# EAGLE library part HIROSE-MICRO-SD (library hirosemicrosd-piggy)
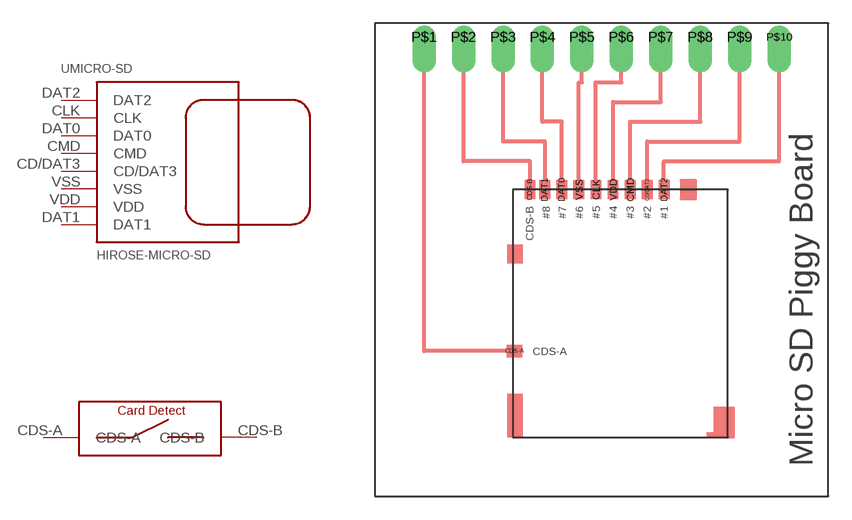
[diagram p0: symbol with the pads of HIROSE-MICROSD-V2; footprint HIROSE-MICROSD-V2]

Designator prefix -; gates MICRO-SD=HIROSE-MICRO-SD CD=MICRO-SD-CDS

## HIROSE-MICRO-SD  [HIROSE-MICROSD-V2]
CD/DAT3  MICRO-SD:CD/DAT3
CDS-A  CD:CDS-A
CDS-B  CD:CDS-B
CLK  MICRO-SD:CLK
CMD  MICRO-SD:CMD
DAT0  MICRO-SD:DAT0
DAT1  MICRO-SD:DAT1
DAT2  MICRO-SD:DAT2
VDD  MICRO-SD:VDD  pas
VSS  MICRO-SD:VSS  pas

## Footprint HIROSE-MICROSD-V2 (pad centres in mm)
smd 0.7 x 1.2: CD/DAT3 7.38,14.68; CDS-B -0.17,14.68; CLK 4.08,14.68; CMD 6.28,14.68; DAT0 1.88,14.68; DAT1 0.78,14.68; DAT2 8.48,14.68; VDD 5.18,14.68; VSS 2.98,14.68
smd 1 x 0.8: CDS-A -1.17,4.28
drill 1 offset: P$1 -6.985,24.511; P$2 -4.445,24.511; P$3 -1.905,24.511; P$4 0.635,24.511; P$5 3.175,24.511; P$6 5.715,24.511; P$7 8.255,24.511; P$8 10.795,24.511; P$9 13.335,24.511; P$10 15.875,24.511